# EAGLE library part MC68008FN (library micro-mc68000)
68xxx PROCESSOR
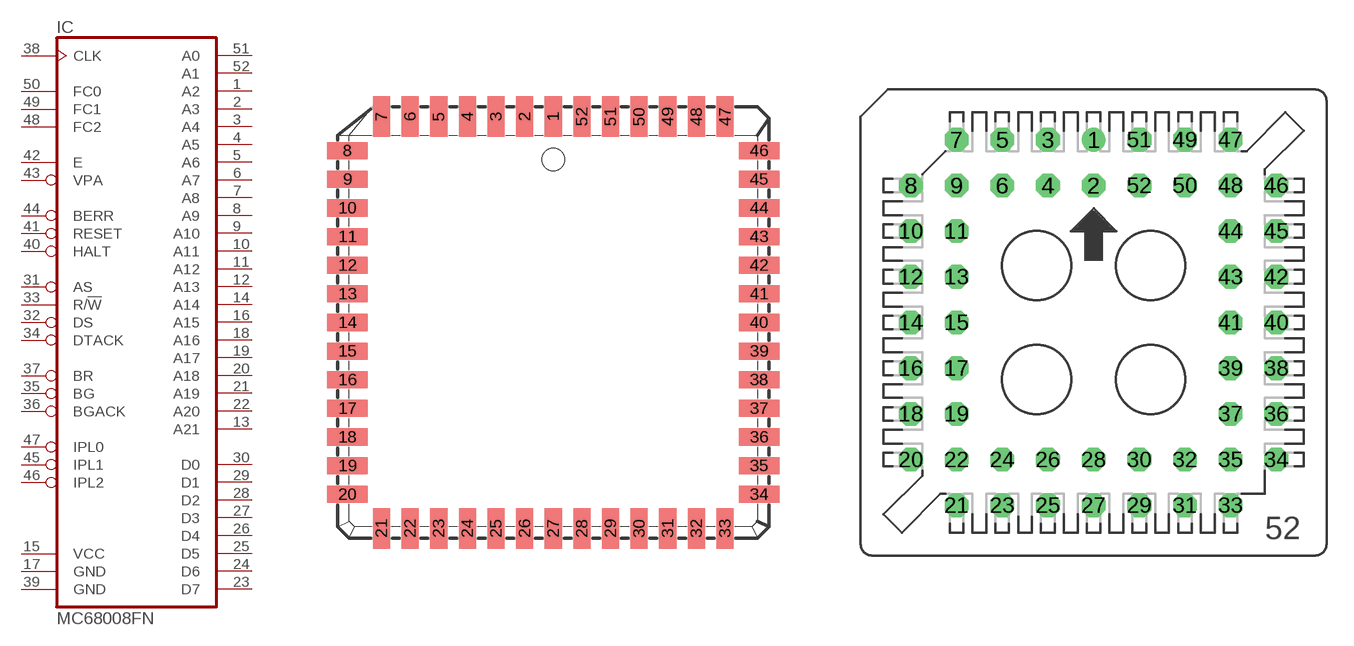
[diagram p16: symbol with the pads of PLCC52; footprints PLCC52, PLCC52-S]

Designator prefix IC

## MC68008FN (OC_FARNELL: unknown; OC_NEWARK: unknown)  [PLCC52]
1  A2  out
2  A3  out
3  A4  out
4  A5  out
5  A6  out
6  A7  out
7  A8  out
8  A9  out
9  A10  out
10  A11  out
11  A12  out
12  A13  out
13  A21  out
14  A14  out
15  VCC  pwr
16  A15  out
17  GND  pwr
18  A16  out
19  A17  out
20  A18  out
21  A19  out
22  A20  out
23  D7
24  D6
25  D5
26  D4
27  D3
28  D2
29  D1
30  D0
31  AS  out
32  DS  out
33  R/!W  out
34  DTACK  in
35  BG  out
36  BGACK  in
37  BR  in
38  CLK  in
39  GND  pwr
40  HALT
41  RESET
42  E  out
43  VPA  in
44  BERR  in
45  IPL1  in
46  IPL2  in
47  IPL0  in
48  FC2  out
49  FC1  out
50  FC0  out
51  A0  out
52  A1  out

## MC68008FN-SOC (OC_FARNELL: unknown; OC_NEWARK: unknown)  [PLCC52-S]
Pads as for PLCC52

## Footprint PLCC52 (pad centres in mm)
PLASTIC LEADED CHIP CARRIER square
smd 0.76 x 1.8: 1 0,9.13; 2 -1.27,9.13; 3 -2.54,9.13; 4 -3.81,9.13; 5 -5.08,9.13; 6 -6.35,9.13; 7 -7.62,9.13; 21 -7.62,-9.13; 22 -6.35,-9.13; 23 -5.08,-9.13; 24 -3.81,-9.13; 25 -2.54,-9.13; 26 -1.27,-9.13; 27 0,-9.13; 28 1.27,-9.13; 29 2.54,-9.13; 30 3.81,-9.13; 31 5.08,-9.13; 32 6.35,-9.13; 33 7.62,-9.13; 47 7.62,9.13; 48 6.35,9.13; 49 5.08,9.13; 50 3.81,9.13; 51 2.54,9.13; 52 1.27,9.13
smd 1.8 x 0.76: 8 -9.13,7.62; 9 -9.13,6.35; 10 -9.13,5.08; 11 -9.13,3.81; 12 -9.13,2.54; 13 -9.13,1.27; 14 -9.13,0; 15 -9.13,-1.27; 16 -9.13,-2.54; 17 -9.13,-3.81; 18 -9.13,-5.08; 19 -9.13,-6.35; 20 -9.13,-7.62; 34 9.13,-7.62; 35 9.13,-6.35; 36 9.13,-5.08; 37 9.13,-3.81; 38 9.13,-2.54; 39 9.13,-1.27; 40 9.13,0; 41 9.13,1.27; 42 9.13,2.54; 43 9.13,3.81; 44 9.13,5.08; 45 9.13,6.35; 46 9.13,7.62

## Footprint PLCC52-S (pad centres in mm)
PLCC Socked
drill 0.813: 1 0,10.16
drill 0.813 octagon: 2 0,7.62; 3 -2.54,10.16; 4 -2.54,7.62; 5 -5.08,10.16; 6 -5.08,7.62; 7 -7.62,10.16; 8 -10.16,7.62; 9 -7.62,7.62; 10 -10.16,5.08; 11 -7.62,5.08; 12 -10.16,2.54; 13 -7.62,2.54; 14 -10.16,0; 15 -7.62,0; 16 -10.16,-2.54; 17 -7.62,-2.54; 18 -10.16,-5.08; 19 -7.62,-5.08; 20 -10.16,-7.62; 21 -7.62,-10.16; 22 -7.62,-7.62; 23 -5.08,-10.16; 24 -5.08,-7.62; 25 -2.54,-10.16; 26 -2.54,-7.62; 27 0,-10.16; 28 0,-7.62; 29 2.54,-10.16; 30 2.54,-7.62; 31 5.08,-10.16; 32 5.08,-7.62; 33 7.62,-10.16; 34 10.16,-7.62; 35 7.62,-7.62; 36 10.16,-5.08; 37 7.62,-5.08; 38 10.16,-2.54; 39 7.62,-2.54; 40 10.16,0; 41 7.62,0; 42 10.16,2.54; 43 7.62,2.54; 44 7.62,5.08; 45 10.16,5.08; 46 10.16,7.62; 47 7.62,10.16; 48 7.62,7.62; 49 5.08,10.16; 50 5.08,7.62; 51 2.54,10.16; 52 2.54,7.62